# Altium schematic symbol library HDR2x8.SchLib: 2 symbols
Pins are listed as number, name and electrical type; pins without a type are passive.

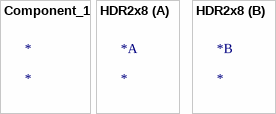
[diagram p0: symbols Component_1 to HDR2x8]

## Component_1
designator *

## HDR2x8
designator *
footprint HDR2x8 - duplicate2